# Altium footprint library TE_2013978-1.PcbLib: 1 footprints
Each footprint in its own frame and in the unit in brackets; x right, y up, seen from the top. Pads: shape width x height; smd on the part's side, far side on the other; paste and mask are expansions set on the pad; w line width, h text height; cw(c..) or ccw(c..) is an arc to the next point about the centre after c.
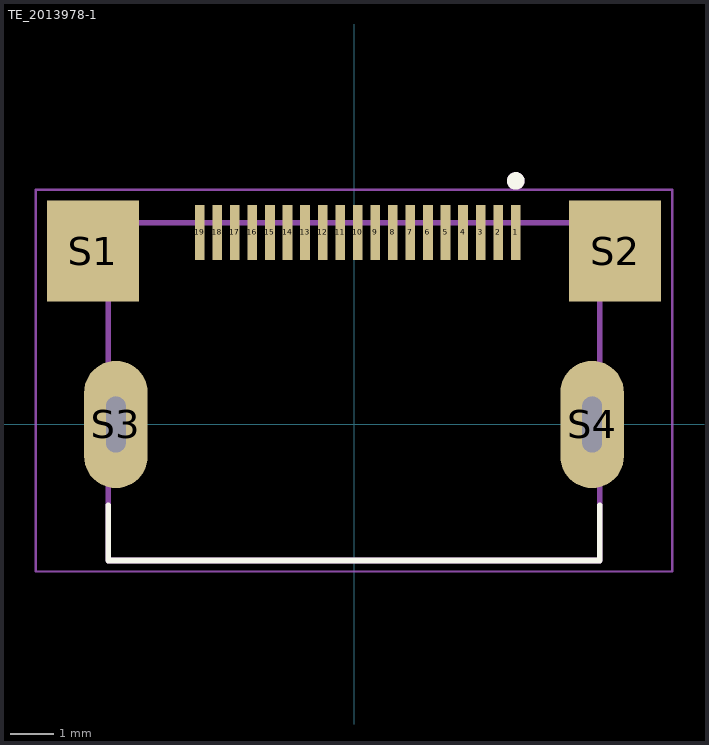
[diagram p0: the footprint, top view; thin cyan lines are the x and y axes]

## TE_2013978-1 [mm]
pads (23):
  rect 0.22x1.25 smd: 1(3.685,4.375) 2(3.285,4.375) 3(2.885,4.375) 4(2.485,4.375) 5(2.085,4.375) 6(1.685,4.375) 7(1.285,4.375) 8(0.885,4.375) 9(0.485,4.375) 10(0.085,4.375) 11(-0.315,4.375) 12(-0.715,4.375) 13(-1.115,4.375) 14(-1.515,4.375) 15(-1.915,4.375) 16(-2.315,4.375) 17(-2.715,4.375) 18(-3.115,4.375) 19(-3.515,4.375)
  rect 2.1x2.3 smd: S1(-5.95,3.95) S2(5.95,3.95)
  oval 1.45x2.9 hole 0.45 slot 1.276 at 90 deg: S3(-5.425,0) S4(5.425,0)
Top Overlay:
  circle w0.2: c3.685,5.55 r0.1
  lines w0.127: -5.6,-1.84 -5.6,-3.1 5.6,-3.1 5.6,-1.84
Mechanical 13:
  circle w0.2: c3.685,5.55 r0.1
  lines w0.127: -5.6,-3.1 5.6,-3.1 5.6,4.6 -5.6,4.6 -5.6,-3.1
Mechanical 15:
  lines w0.05: -7.25,-3.35 7.25,-3.35 7.25,5.35 -7.25,5.35 -7.25,-3.35